# Altium footprint library ADV7611.PcbLib: 3 footprints
Each footprint in its own frame and in the unit in brackets; x right, y up, seen from the top. Pads: shape width x height; smd on the part's side, far side on the other; paste and mask are expansions set on the pad; w line width, h text height; cw(c..) or ccw(c..) is an arc to the next point about the centre after c.
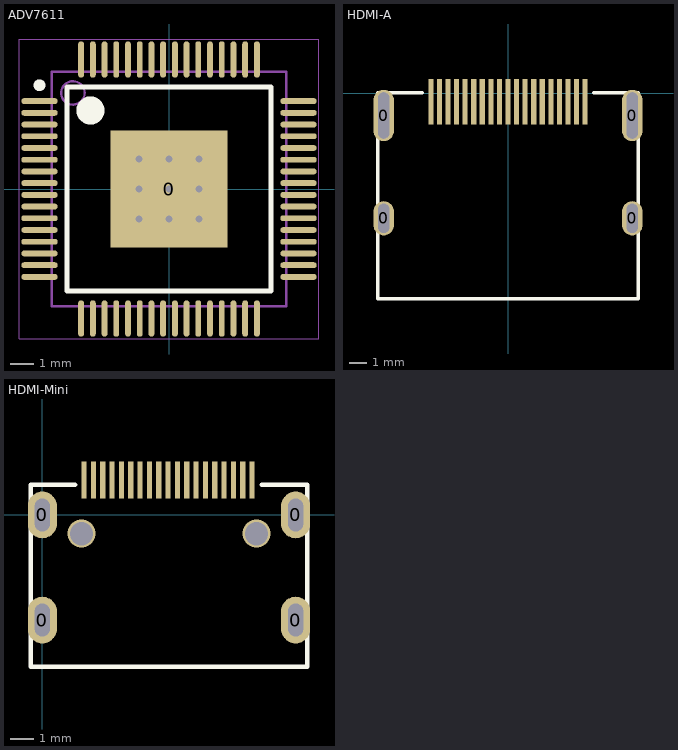
[diagram p0: the footprints below, top view; thin cyan lines are the x and y axes]

## ADV7611 [mm] "Thin QFP, 64-Leads, Body 10x10mm, Pitch 0.5mm, IPC High Density"
height 1.6
pads (65):
  rect 5x5 smd: 0(0,0)
  oval 1.55x0.25 smd: 1(-5.525,3.75) 2(-5.525,3.25) 3(-5.525,2.75) 4(-5.525,2.25) 5(-5.525,1.75) 6(-5.525,1.25) 7(-5.525,0.75) 8(-5.525,0.25) 9(-5.525,-0.25) 10(-5.525,-0.75) 11(-5.525,-1.25) 12(-5.525,-1.75) 13(-5.525,-2.25) 14(-5.525,-2.75) 15(-5.525,-3.25) 16(-5.525,-3.75) 33(5.525,-3.75) 34(5.525,-3.25) 35(5.525,-2.75) 36(5.525,-2.25) 37(5.525,-1.75) 38(5.525,-1.25) 39(5.525,-0.75) 40(5.525,-0.25) 41(5.525,0.25) 42(5.525,0.75) 43(5.525,1.25) 44(5.525,1.75) 45(5.525,2.25) 46(5.525,2.75) 47(5.525,3.25) 48(5.525,3.75)
  oval 0.25x1.55 smd: 17(-3.75,-5.525) 18(-3.25,-5.525) 19(-2.75,-5.525) 20(-2.25,-5.525) 21(-1.75,-5.525) 22(-1.25,-5.525) 23(-0.75,-5.525) 24(-0.25,-5.525) 25(0.25,-5.525) 26(0.75,-5.525) 27(1.25,-5.525) 28(1.75,-5.525) 29(2.25,-5.525) 30(2.75,-5.525) 31(3.25,-5.525) 32(3.75,-5.525) 49(3.75,5.525) 50(3.25,5.525) 51(2.75,5.525) 52(2.25,5.525) 53(1.75,5.525) 54(1.25,5.525) 55(0.75,5.525) 56(0.25,5.525) 57(-0.25,5.525) 58(-0.75,5.525) 59(-1.25,5.525) 60(-1.75,5.525) 61(-2.25,5.525) 62(-2.75,5.525) 63(-3.25,5.525) 64(-3.75,5.525)
via 0,0 diameter 0.5 hole 0.3
via 0,1.27 diameter 0.5 hole 0.3
via 1.27,1.27 diameter 0.5 hole 0.3
via 1.27,0 diameter 0.5 hole 0.3
via 1.27,-1.27 diameter 0.5 hole 0.3
via 0,-1.27 diameter 0.5 hole 0.3
via -1.27,-1.27 diameter 0.5 hole 0.3
via -1.27,0 diameter 0.5 hole 0.3
via -1.27,1.27 diameter 0.5 hole 0.3
Top Overlay:
  circle w0.6: c-3.35,3.35 r0.3
  circle w0.25: c-5.525,4.425 r0.125
  lines w0.2: -4.35,-4.35 4.35,-4.35 4.35,4.35 -4.35,4.35 -4.35,-4.35
Mechanical 13:
  circle w0.1: c-4.1,4.1 r0.5
  lines w0.1: -5,-5 5,-5 5,5 -5,5 -5,-5
Mechanical 15:
  lines w0.05: -6.4,-6.4 6.4,-6.4 6.4,6.4 -6.4,6.4 -6.4,-6.4
  lines w0.1: -0.5,0 0.5,0 ; 0,-0.5 0,0.5
3D body: height 1.6, standoff 0.05, extent -5,-5 5,5

## HDMI-A [mm]
pads (23):
  oval 1.2x2 hole 0.65 slot 1.7 at 90 deg: 0(-7.25,-7.3) 0(7.25,-7.3)
  oval 1.2x3 hole 0.65 slot 2.7 at 90 deg: 0(-7.25,-1.3) 0(7.25,-1.3)
  rect 0.3x2.65 smd: 1(4.5,-0.5) 2(4,-0.5) 3(3.5,-0.5) 4(3,-0.5) 5(2.5,-0.5) 6(2,-0.5) 7(1.5,-0.5) 8(1,-0.5) 9(0.5,-0.5) 10(0,-0.5) 11(-0.5,-0.5) 12(-1,-0.5) 13(-1.5,-0.5) 14(-2,-0.5) 15(-2.5,-0.5) 16(-3,-0.5) 17(-3.5,-0.5) 18(-4,-0.5) 19(-4.5,-0.5)
Top Overlay:
  lines w0.2: -5,0.03 -7.6,0.03 -7.6,-12 7.6,-12 7.6,0.03 5,0.03

## HDMI-Mini [mm]
pads (23):
  oval 1.25x2 hole 0.65 slot 1.4 at 90 deg: 0(0,-4.5) 0(0,0) 0(10.85,-4.5) 0(10.85,0)
  rect 0.22x1.6 smd: 1(8.985,1.5) 2(8.585,1.5) 3(8.185,1.5) 4(7.785,1.5) 5(7.385,1.5) 6(6.985,1.5) 7(6.585,1.5) 8(6.185,1.5) 9(5.785,1.5) 10(5.385,1.5) 11(4.985,1.5) 12(4.585,1.5) 13(4.185,1.5) 14(3.785,1.5) 15(3.385,1.5) 16(2.985,1.5) 17(2.585,1.5) 18(2.185,1.5) 19(1.785,1.5)
via 9.175,-0.8 diameter 1.2 hole 1
via 1.675,-0.8 diameter 1.2 hole 1
Top Overlay:
  lines w0.2: 1.4,1.3 -0.5,1.3 -0.5,-6.5 11.35,-6.5 11.35,1.3 9.4,1.3